# Altium schematic symbol library SoporokoHost.SchLib: 8 symbols
Pins are listed as number, name and electrical type; pins without a type are passive.

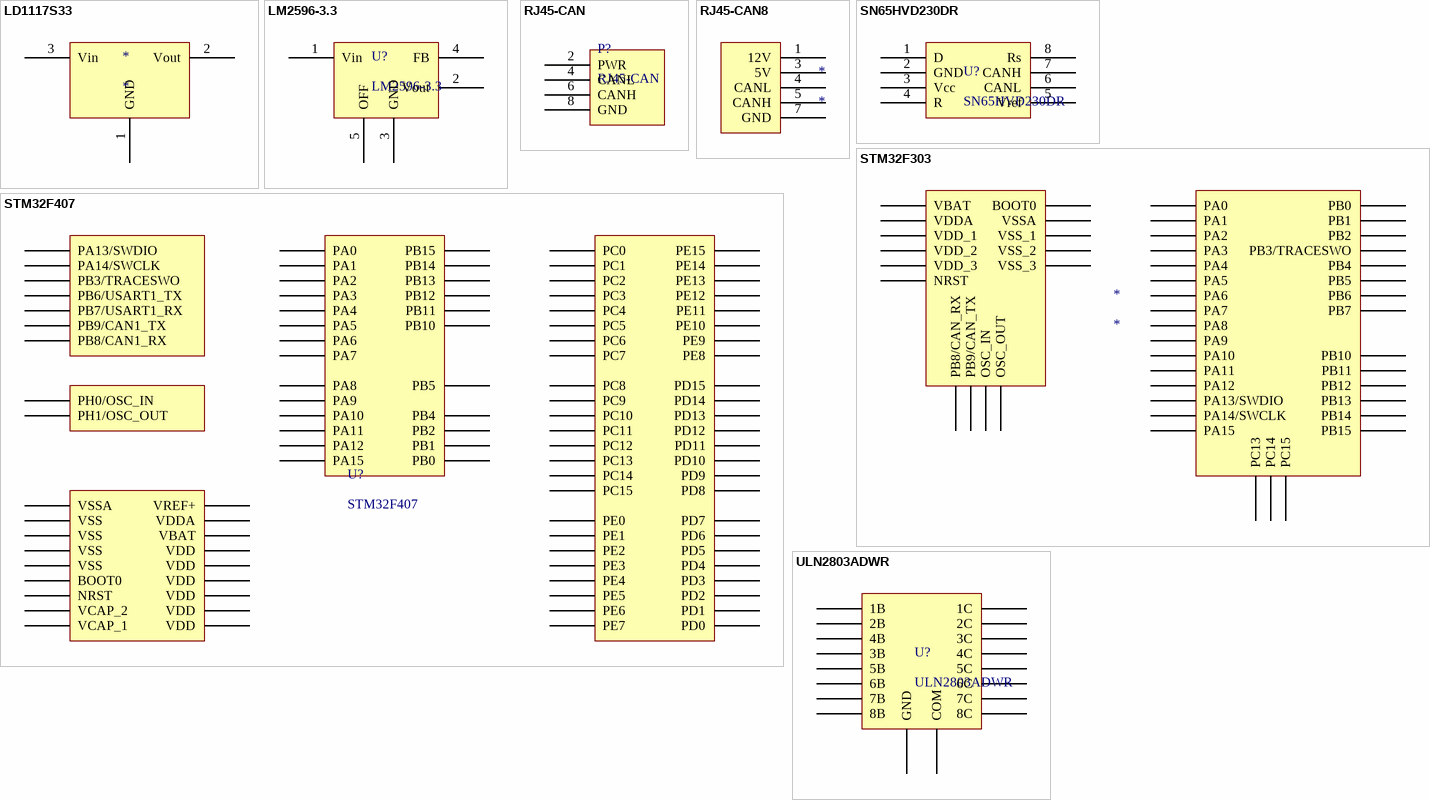
[diagram p0: symbols LD1117S33 to ULN2803ADWR]

## LD1117S33
designator *
pins: 1 GND, 2 Vout, 3 Vin

## LM2596-3.3
designator U?
footprint DPAK170P1435X465-6N (D2-PAK, 6-Pads, Body 7.55x8.56mm (max), IPC Medium Density)
footprint TO170P1520-6M (D2-PAK, 6-Leads, Body 9x10.2mm, Pitch 1.7mm, Lead Span 15.2mm, IPC Low Density)
pins: 1 Vin, 2 Vout, 3 GND, 4 FB, 5 OFF, 6 GND hidden to 3

## RJ45-CAN
designator P?
footprint RJ45-CAN
pins: 1 PWR hidden to 2, 2 PWR, 3 CANL hidden to 4, 4 CANL, 5 CANH hidden to 6, 6 CANH, 7 GND hidden to 8, 8 GND, 9 GND hidden to 8

## RJ45-CAN8
designator *
footprint RJ45-CAN
pins: 1 12V, 2 12V hidden, 3 5V, 4 CANL, 5 CANH, 6 5V hidden, 7 GND, 8 GND hidden

## SN65HVD230DR
designator U?
footprint SOIC127P600X175-8N (SOIC, 8-Leads, Body 4.90x3.90mm, Pitch 1.27mm, IPC Medium Density)
pins: 1 D, 2 GND, 3 Vcc, 4 R, 5 Vref, 6 CANL, 7 CANH, 8 Rs

## STM32F303
designator *
pins: 1 VBAT, 2 PC13, 3 PC14, 4 PC15, 5 OSC_IN, 6 OSC_OUT, 7 NRST, 8 VSSA, 9 VDDA, 10 PA0, 11 PA1, 12 PA2, 13 PA3, 14 PA4, 15 PA5, 16 PA6, 17 PA7, 18 PB0, 19 PB1, 20 PB2, 21 PB10, 22 PB11, 23 VSS_2, 24 VDD_2, 25 PB12, 26 PB13, 27 PB14, 28 PB15, 29 PA8, 30 PA9, 31 PA10, 32 PA11, 33 PA12, 34 PA13/SWDIO, 35 VSS_3, 36 VDD_3, 37 PA14/SWCLK, 38 PA15, 39 PB3/TRACESWO, 40 PB4, 41 PB5, 42 PB6, 43 PB7, 44 BOOT0, 45 PB8/CAN_RX, 46 PB9/CAN_TX, 47 VSS_1, 48 VDD_1

## STM32F407
designator U?
footprint TSQFP50P1600X1600X160-100N (TSQFP, 100-Leads, Body 14.00x14.00mm, Pitch 0.50mm, IPC Medium Density)
pins: 1 PE2, 2 PE3, 3 PE4, 4 PE5, 5 PE6, 6 VBAT, 7 PC13, 8 PC14, 9 PC15, 10 VSS, 11 VDD, 12 PH0/OSC_IN, 13 PH1/OSC_OUT, 14 NRST, 15 PC0, 16 PC1, 17 PC2, 18 PC3, 19 VDD, 20 VSSA, 21 VREF+, 22 VDDA, 23 PA0, 24 PA1, 25 PA2, 26 PA3, 27 VSS, 28 VDD, 29 PA4, 30 PA5, 31 PA6, 32 PA7, 33 PC4, 34 PC5, 35 PB0, 36 PB1, 37 PB2, 38 PE7, 39 PE8, 40 PE9, 41 PE10, 42 PE11, 43 PE12, 44 PE13, 45 PE14, 46 PE15, 47 PB10, 48 PB11, 49 VCAP_1, 50 VDD, 51 PB12, 52 PB13, 53 PB14, 54 PB15, 55 PD8, 56 PD9, 57 PD10, 58 PD11, 59 PD12, 60 PD13, 61 PD14, 62 PD15, 63 PC6, 64 PC7, 65 PC8, 66 PC9, 67 PA8, 68 PA9, 69 PA10, 70 PA11, 71 PA12, 72 PA13/SWDIO, 73 VCAP_2, 74 VSS, 75 VDD, 76 PA14/SWCLK, 77 PA15, 78 PC10, 79 PC11, 80 PC12, 81 PD0, 82 PD1, 83 PD2, 84 PD3, 85 PD4, 86 PD5, 87 PD6, 88 PD7, 89 PB3/TRACESWO, 90 PB4, 91 PB5, 92 PB6/USART1_TX, 93 PB7/USART1_RX, 94 BOOT0, 95 PB8/CAN1_RX, 96 PB9/CAN1_TX, 97 PE0, 98 PE1, 99 VSS, 100 VDD

## ULN2803ADWR
designator U?
footprint SOIC127P1030X265-18N (SOIC, 18-Leads, Body 11.55x7.50mm, Pitch 1.27mm, IPC Medium Density)
pins: 1 1B, 2 2B, 3 3B, 4 4B, 5 5B, 6 6B, 7 7B, 8 8B, 9 GND, 10 COM, 11 8C, 12 7C, 13 6C, 14 5C, 15 4C, 16 3C, 17 2C, 18 1C